# Altium schematic symbol library Leaf_Adapter.SchLib: 15 symbols
Pins are listed as number, name and electrical type; pins without a type are passive.

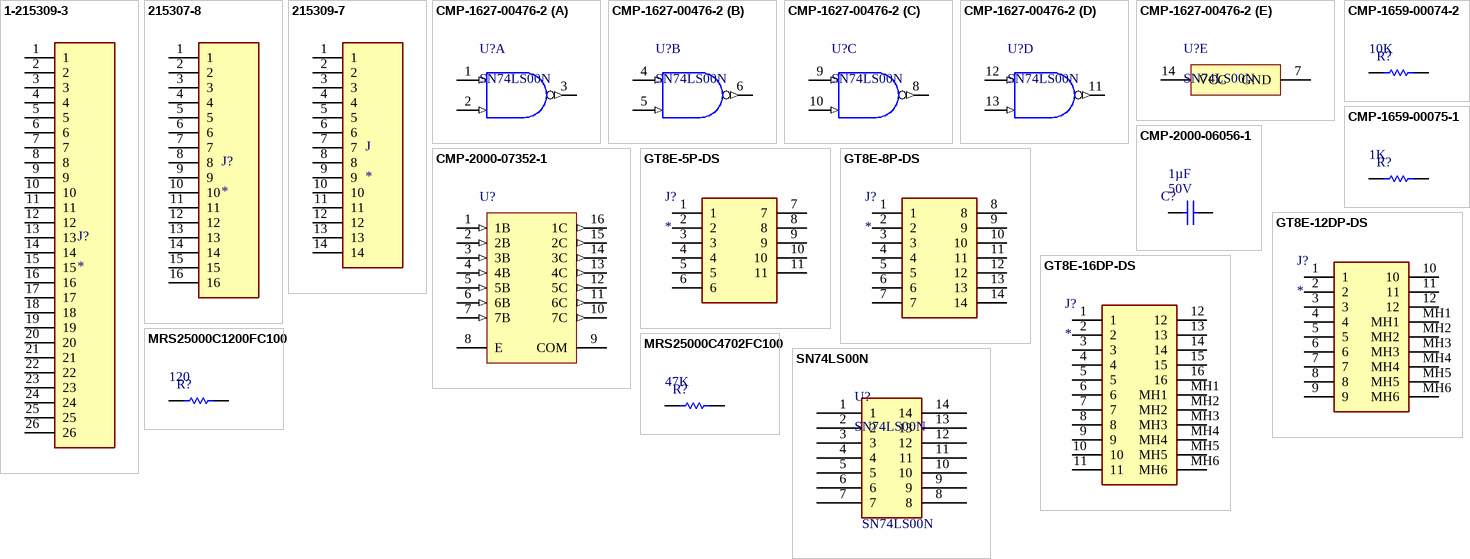
[diagram p0: symbols 1-215309-3 to SN74LS00N]

## 1-215309-3
designator J?
MP: 1-215309-3; Package: None; Price: None; Value: *; Availability: Unavailable
footprint TE_1-215309-3
pins: 1, 2, 3, 4, 5, 6, 7, 8, 9, 10, 11, 12, 13, 14, 15, 16, 17, 18, 19, 20, 21, 22, 23, 24, 25, 26

## 215307-8
designator J?
MP: 215307-8; Package: None; Price: None; Value: *; Availability: Unavailable
footprint TE_215307-8
pins: 1, 2, 3, 4, 5, 6, 7, 8, 9, 10, 11, 12, 13, 14, 15, 16

## 215309-7
designator J
2X7P HV100 REC CON. TE, 8.5MM; MP: 215309-7; Number_of_Positions: 7; Centerline_Pitch: 2.54 mm[.1 in]; Product_Type: Connector; MF: TE Connectivity; Price: None; SnapEDA_Link: https://www.snapeda.com/parts/215309-7/TE%20Connectivity%20AMP%20Connectors/view-part/1233007/?ref=snap; EU_RoHS_Compliance: Compliant; Availability: Unavailable; Value: *; TE_purchase_URL: https://www.te.com/usa-en/product-215309-7.html?te_bu=Cor&te_type=disp&te_campaign=seda_glo_cor-seda-global-disp-prtnr-fy19-seda-model-bom-cta_sma-317_1&elqCampaignId=32493; Package: None
footprint TE_215309-7
pins: 1, 2, 3, 4, 5, 6, 7, 8, 9, 10, 11, 12, 13, 14

## CMP-1627-00476-2
designator U?, comment SN74LS00N
Quad 2-input positive-NAND gates, N0014A, TUBE; Manufacturer: Texas Instruments; VCC(Min)(V): 4.75; F @ Nom Voltage(Max)(Mhz): 35; Voltage(Nom)(V): 5; Rating: Catalog; tpd @ Nom Voltage(Max)(ns): 22; Output Type: TTL; Schmitt Trigger: No; Output Drive (IOL/IOH)(Max)(mA): 0.4/-16; Technology Family: LS; ICC @ Nom Voltage(Max)(mA): 0.022; VCC(Max)(V): 5.25; Bits(#): 4; Code_JEDEC: MS-001; Generic Part Number: SN74LS00; Input Type: TTL; Operating Temperature Range(C): 0 to 70; PackageReference: N0014A; DatasheetVersion: SDLS025B
footprint N0014A (DIP, 14-Leads, Body 19.7x6.6mm, Pitch 2.54mm)
part A pins: 1 1A (in) "Gate 1 input", 2 1B (in) "Gate 1 input", 3 1Y (out) "Gate 1 output"
part B pins: 4 2A (in) "Gate 2 input", 5 2B (in) "Gate 2 input", 6 2Y (out) "Gate 2 output"
part C pins: 8 3Y (out) "Gate 3 output", 9 3A (in) "Gate 3 input", 10 3B (in) "Gate 3 input"
part D pins: 11 4Y (out) "Gate 4 output", 12 4A (in) "Gate 4 input", 13 4B (in) "Gate 4 input"
part E pins: 7 GND (power) "Ground Pin", 14 VCC (power) "Power Pin"

## CMP-1659-00074-2
designator R?, comment Resistance: 10K  (hidden comment: MFR-25FBF5210K)
Axial Resistor, 10 KOhm, +/- 1%, 0.25 W, -55 to 155 degC, 2-Pin THD, RoHS, Bulk; Manufacturer: Yageo; Temperature Coefficient: 100ppm\/degreesC; Voltage Rating: 250V; Voltage Rating (DC): 200V; Max Power Dissipation: 250mW; Datasheet URL: http://www.yageo.com/documents/recent/Yageo%20LR_MFR_2013.pdf; Packaging: Bulk; RoHSCompliant: True; Mount: ThroughHole; Package Reference: MFR-25; Termination: Axial; Composition: MetalFilm; Number of Terminations: 2; Package Quantity: 200; Mounting Technology: ThroughHole; Length: 0.248inch; Max Operating Temperature: 155degC; Min Operating Temperature: -55degC; Datasheet Version: 04/2013; Lead Free: LeadFree; Manufacturer URL: http://www.yageo.com/; Tolerance: 1%; Power Rating: 250mW; Package Description: 2-Pin Axial Lead, Dia 2.4 mm, Body Length 6.3 mm; Military Standard: Not; Case\/Package: Axial
footprint RESA60-630X240 (Axial Resistor, 2-Leads, Dia 2.4mm, Body Length 6.3mm)
pins: 1, 2

## CMP-1659-00075-1
designator R?, comment Resistance: 1K  (hidden comment: MFR-25FBF52-1K)
Axial Resistor, 1 KOhm, +/- 1%, 250 mW, -55 to 155 degC, 2-Pin THD, RoHS, Bulk; Voltage Rating: 250 V; Power Rating: 250 mW; ComponentLink2Description: Datasheet; RoHSCompliant: true; PackageReference: MFR-25; Case\Package: Axial; Max Operating Temperature: 155 degC; DatasheetVersion: Apr-13; Tolerance: 1%; ComponentLink1URL: http://www.yageo.com/; Length: 0.248 inch; ComponentLink2URL: http://www.yageo.com/documents/recent/Yageo%20LR_MFR_2013.pdf; Packaging: Bulk; Package Quantity: 200; PackageDescription: 2-Pin Axial Lead, Dia 2.4 mm, Body Length 6.3 mm; Min Operating Temperature: -55 degC; ComponentLink1Description: Manufacturer URL
footprint RESA60-630X240 (Axial Resistor, 2-Leads, Dia 2.4mm, Body Length 6.3mm)
pins: 1, 2

## CMP-2000-06056-1
designator C?, comment Voltage - Rated: 50V  Capacitance: 1µF  (hidden comment: C330C105M5U5TA)
Ceramic Capacitor, 1 uF, +/- 20%, 50 V, -10 to 85 degC, 2-Pin THD, RoHS, Bulk; Manufacturer: Kemet; Temperature Coefficient: Z5U; Catalog Drawings: C330(std); Product Training Modules: CapacitorBasics-TypicalUsesforCapacitors; Online Catalog: GoldenMax™Series; Other Names: 399-4390; PCN Design/Specification: C3yySeriesGoldenMaxLeadConfiguration02/Feb/2015; Thickness (Max): -; Size / Dimension: 0.300"Lx0.150"W(7.62mmx3.81mm); Mounting Technology: ThroughHole; Tolerance: ±20%; Mounting Type: ThroughHole; Datasheet URL: http://www.kemet.com/Lists/ProductCatalog/Attachments/599/KEM_C1051_GOLDMAX_Z5U.pdf; Series: GoldenMax™; Standard Package: 250; Ratings: -; Applications: GeneralPurpose; Package Reference: C330C105M5U5TA; Packaging: Bulk; Category: Capacitors; Package Description: 2-Pin Through Hole Device, Body 7.11 x 4.07 mm; Operating Temperature: 10°C~85°C; Height - Seated (Max): 0.360"(9.14mm); Manufacturer URL: http://www.kemet.com/; Lead Spacing: 0.200"(5.08mm); Features: -; Lead Style: Straight; Package / Case: Radial; Family: CeramicCapacitors; Datasheet Version: 12/2015
footprint KEMT-C330C105M5U5TA (THD, 2-Leads, Body 7.11x4.07mm)
pins: 1, 2

## CMP-2000-07352-1
designator U?, comment ULN2003AN  (value not drawn)
High-Voltage, High-Current Darlington Transistor Array, 50 V, 500 mA, -20 to 70 degC, 16-Pin PDIP (N), Pb-Free (RoHS), Tube; Manufacturer: TexasInstruments; Maximum Collector Emitter Saturation Voltage: 1.1@100mA|1.3@200mA|1.6@350mAV; Peak DC Collector Current: 0.5A; Package Version: 4040049/E, 12/2002; Configuration: Array7; Maximum Collector Emitter Voltage: 50V; Rad Hard: No; Mounting: ThroughHole; Datasheet URL: http://www.ti.com/general/docs/lit/getliterature.tsp?genericPartNumber=uln2003a&fileType=pdf; Package: 16PDIP; Package Reference: N16; Datasheet Version: Rev. O, 01/2016; Mounting Technology: ThroughHole; Package Description: 16-Pin Plastic In-Line, Body 19.305 x 6.35 mm, Pitch 2.54 mm; Manufacturer URL: http://www.ti.com/; Type: NPN; Category: DarlingtonBJT; Package URL: http://www.ti.com/litv/pdf/mpdi002c; Packaging: Rail/Tube
footprint N0016A (DIP, 16-Leads, Body 19.7x6.6mm, Pitch 2.54mm)
pins: 1 1B (in) "Darlington base input", 2 2B (in) "Darlington base input", 3 3B (in) "Darlington base input", 4 4B (in) "Darlington base input", 5 5B (in) "Darlington base input", 6 6B (in) "Darlington base input", 7 7B (in) "Darlington base input", 8 E "Common emitter shared by all channels (typically tied to ground)", 9 COM "Common cathode node for flyback diodes (required for inductive loads)", 10 7C (out) "Darlington collector output", 11 6C (out) "Darlington collector output", 12 5C (out) "Darlington collector output", 13 4C (out) "Darlington collector output", 14 3C (out) "Darlington collector output", 15 2C (out) "Darlington collector output", 16 1C (out) "Darlington collector output"

## GT8E-5P-DS
designator J?
Connector; Manufacturer_Name: Hirose; Manufacturer_Part_Number: GT8E-5P-DS; Datasheet Link: https://www.hirose.com/product/en/download_file/key_name/GT8E/category/Catalog/doc_file_id/49379/&file_category_id=4&item_id=35&is_series=1; Height: 7mm
footprint GT8E5PDS
pins: 1, 2, 3, 4, 5, 6, 7, 8, 9, 10, 11

## GT8E-8P-DS
designator J?
Connector; Manufacturer_Name: Hirose; Manufacturer_Part_Number: GT8E-8P-DS; Datasheet Link: https://www.mouser.co.uk/datasheet/2/185/GT8E_catalog-939506.pdf; Height: 7mm
footprint GT8E8PDS
pins: 1, 2, 3, 4, 5, 6, 7, 8, 9, 10, 11, 12, 13, 14

## GT8E-12DP-DS
designator J?
Connector; Manufacturer_Name: Hirose; Manufacturer_Part_Number: GT8E-12DP-DS; Datasheet Link: https://www.hirose.com/product/document?clcode=&productname=&series=GT8E&documenttype=Catalog&lang=en&documentid=D49379_en; Height: 10.5mm
footprint GT8E12DPDS
pins: 1, 2, 3, 4, 5, 6, 7, 8, 9, 10, 11, 12, MH1, MH2, MH3, MH4, MH5, MH6

## GT8E-16DP-DS
designator J?
Connector; Manufacturer_Name: Hirose; Manufacturer_Part_Number: GT8E-12DP-DS; Datasheet Link: https://www.hirose.com/product/document?clcode=&productname=&series=GT8E&documenttype=Catalog&lang=en&documentid=D49379_en; Height: 10.5mm
footprint GT8E16DPDS
pins: 1, 2, 3, 4, 5, 6, 7, 8, 9, 10, 11, 12, 13, 14, 15, 16, MH1, MH2, MH3, MH4, MH5, MH6

## MRS25000C1200FC100
designator R?  Resistance: 120  (hidden comment: MRS25000C1200FC100)
RES 120 OHM 1% 0.6W AXIAL; Manufacturer: Vishay Beyschlag/Draloric/BC Components; Temperature Coefficient: ±50ppm/°C; Datasheet URL: https://www.vishay.com/docs/28724/mrs16m25.pdf; Mount: ThroughHole; Termination: Axial; Composition: MetalFilm; Number of Terminations: 2; Mounting Technology: ThroughHole; Max Operating Temperature: 155degC; Min Operating Temperature: -55degC; Tolerance: 1%; Power Rating: 0.6W; Package: Axial; Supplier 1: Digi-Key; Supplier Part Number 1: BC4562CT-ND
footprint RESA60-630X240 (Axial Resistor, 2-Leads, Dia 2.4mm, Body Length 6.3mm)
pins: 1, 2

## MRS25000C4702FC100
designator R?  Resistance: 47K  (hidden comment: MRS25000C4702FC100)
RES 47K OHM 0.6W 1% AXIAL; Manufacturer: Vishay Beyschlag/Draloric/BC Components; Temperature Coefficient: ±50ppm/°C; Datasheet URL: https://www.vishay.com/docs/28724/mrs16m25.pdf; Mount: ThroughHole; Termination: Axial; Composition: MetalFilm; Number of Terminations: 2; Mounting Technology: ThroughHole; Max Operating Temperature: 155degC; Min Operating Temperature: -55degC; Tolerance: 1%; Power Rating: 0.6W; Package: Axial; Supplier 1: Digi-Key; Supplier Part Number 1: BC4177CT-ND
footprint RESA60-630X240 (Axial Resistor, 2-Leads, Dia 2.4mm, Body Length 6.3mm)
pins: 1, 2

## SN74LS00N
designator U?
IC GATE NAND 4CH 2-INP 14DIP; Manufacturer: Texas Instruments; Logic Type: NAND Gate; Number of Inputs: 2; Voltage - SupplyParameter 1: 4.75V ~ 5.25V; Current - Output High, Low: 400µA, 8mA; Logic Level - Low: 0.8V; Logic Level - High: 2V; Max Propagation Delay @ V, Max CL: 15ns @ 5V, 15pF; Operating Temperature: 0°C ~ 70°C (TA); Mounting Type: Through Hole; Supplier 1: Digi-Key; Supplier Part Number 1: 296-1626-ND; Manufacturer Part Number: SN74LS00N
footprint N0014A (DIP, 14-Leads, Body 19.7x6.6mm, Pitch 2.54mm)
pins: 1, 2, 3, 4, 5, 6, 7, 8, 9, 10, 11, 12, 13, 14